# Altium schematic symbol library baseLib.SchLib: 1 symbol
Pins are listed as number, name and electrical type; pins without a type are passive.

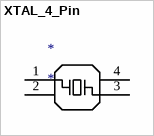
[diagram p0: symbol XTAL_4_Pin]

## XTAL_4_Pin
designator *
footprint SMD_XTAL4P_3225 (XTAL-4Pin)
pins: 1, 2, 3, 4